# EAGLE library part MAX14430 (library EIT_Recorder)
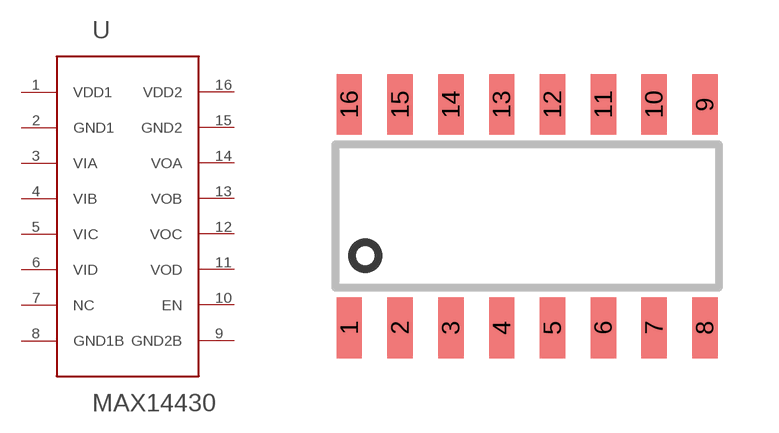
[diagram p7: symbol with the pads of SOIC16_CUSTOM; footprint SOIC16_CUSTOM]

Designator prefix -

## MAX14430  [SOIC16_CUSTOM]
1  VDD1  pwr
2  GND1  pwr
3  VIA  in
4  VIB  in
5  VIC  in
6  VID  in
7  NC  nc
8  GND1B  pwr
9  GND2B  pwr
10  EN
11  VOD  out
12  VOC  out
13  VOB  out
14  VOA  out
15  GND2  pwr
16  VDD2  pwr

## Footprint SOIC16_CUSTOM (pad centres in mm)
SMALL OUTLINE INTEGRATED CIRCUIT 16-Pin (150-Mil) SOIC Source: http://www.cypress.com .. 38-12025_0P_V.pdf
smd 0.635 x 1.524: 1 -4.445,-2.795; 2 -3.175,-2.795; 3 -1.905,-2.795; 4 -0.635,-2.795; 5 0.635,-2.795; 6 1.905,-2.795; 7 3.175,-2.795; 8 4.445,-2.795; 9 4.445,2.795; 10 3.175,2.795; 11 1.905,2.795; 12 0.635,2.795; 13 -0.635,2.795; 14 -1.905,2.795; 15 -3.175,2.795; 16 -4.445,2.795